# Altium footprint library SnapEDApcb.PcbLib: 1 footprints
Each footprint in its own frame and in the unit in brackets; x right, y up, seen from the top. Pads: shape width x height; smd on the part's side, far side on the other; paste and mask are expansions set on the pad; w line width, h text height; cw(c..) or ccw(c..) is an arc to the next point about the centre after c.
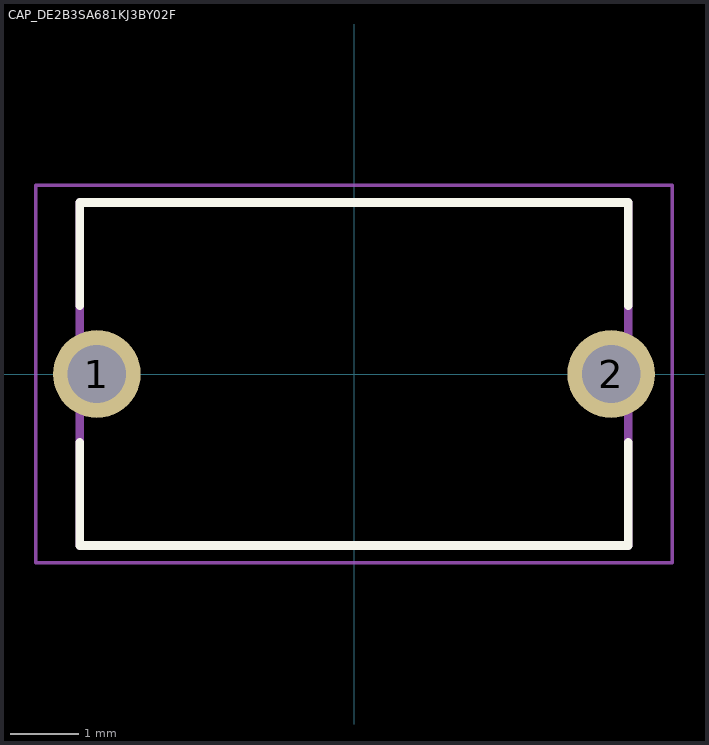
[diagram p0: the footprint, top view; thin cyan lines are the x and y axes]

## CAP_DE2B3SA681KJ3BY02F [mm]
pads (2):
  round 1.28 hole 0.85: 1(-3.75,0) 2(3.75,0)
Top Overlay:
  lines w0.127: -4,-1 -4,-2.5 4,-2.5 4,-1 ; -4,1 -4,2.5 4,2.5 4,1
Mechanical 13:
  lines w0.127: -4,-2.5 -4,2.5 4,2.5 4,-2.5 -4,-2.5
Mechanical 15:
  lines w0.05: -4.64,-2.75 -4.64,2.75 4.64,2.75 4.64,-2.75 -4.64,-2.75